# Altium schematic symbol library display.SchLib: 2 symbols
Pins are listed as number, name and electrical type; pins without a type are passive.

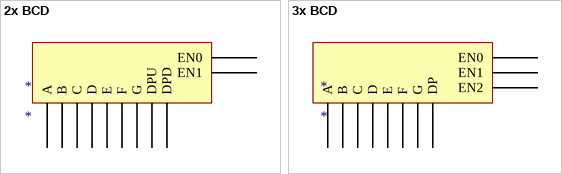
[diagram p0: symbols 2x BCD to 3x BCD]

## 2x BCD
designator *
pins: 1 G, 2 DPD, 3 A, 4 F, 5 EN1, 6 D, 7 E, 8 C, 9 B, 10 EN0, 11 DPU

## 3x BCD
designator *
pins: 1 E, 2 D, 3 DP, 4 C, 5 G, 7 B, 8 EN2, 9 EN1, 10 F, 11 A, 12 EN0